# Altium integrated library TI Power Management Supervisor and Reset IC.IntLib: 819 symbols (part 7 of 30)
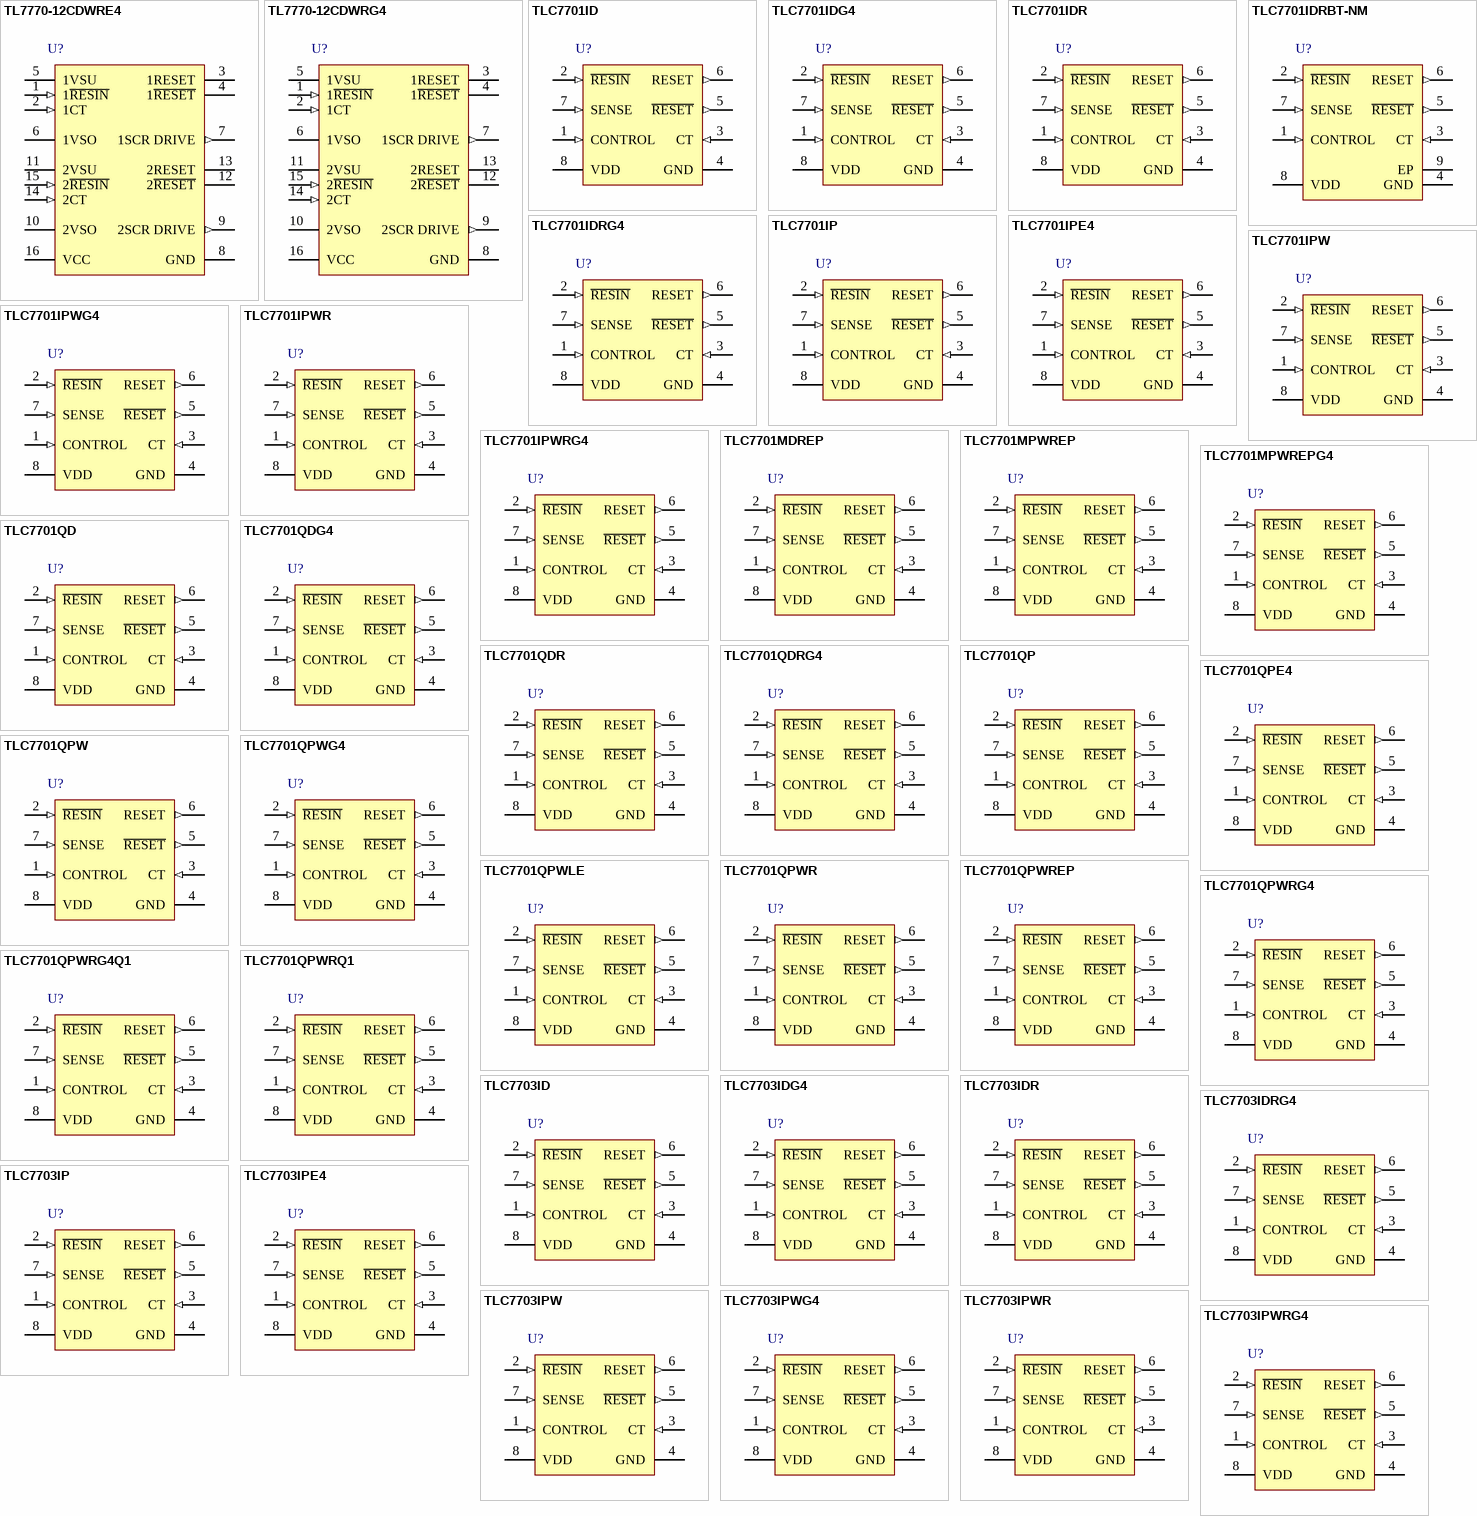
[diagram p27: symbols TL7770-12CDWRE4 to TLC7703IPWRG4]

## TLC7701IPE4
designator U?
Adjustable Single Supply Voltage Supervisor with Programmable Time Delay, 1 Supply Monitored, -40 to 85 degC, 8-pin PDIP (P), Pb-Free (RoHS); Manufacturer: Texas Instruments; PartNumber: TLC7701IPE4; # of supplies monitored: 1; Iq(Typ)(uA): 9; Output Driver Type / Reset Output: Active-low, Push-pull, Active-high, Push-pull; Rating: Catalog; Reset Threshold Accuracy(%): 5.5; SubFamily: Supervisor and Reset IC; VCC(Max)(V): 6; VCC(Min)(V): 2; DatasheetVersion: SLVS087M; PackageVersion: revE, Apr-2010; PackageReference: P8; PackageDescription: 8-Pin Plastic Dual-In-Line Package, Row Spacing 7.62 mm, Pitch 2.54 mm; Supplier 1: Digi-Key; Supplier Part Number 1: TLC7701IPE4-ND; Supplier 2: Newark; Supplier Part Number 2: 24K5356; Supplier 3: Mouser; Supplier Part Number 3: 595-TLC7701IPE4; Threshold Voltage 1 (typ)(Typ)(V): Adjustable; Time Delay(ms): Programmable; Mounting Technology: Through Hole; Code_JEDEC: MS-001-BA; ComponentLink1Description: Datasheet; ComponentLink1URL: http://www.ti.com/general/docs/lit/getliterature.tsp?genericPartNumber=TLC7701&fileType=pdf
footprint P8 (DIP, 8-Leads, Row Spacing 7.62mm, Pitch 2.54mm, Body 9.6x6.4mm)
pins: 1 CONTROL (in), 2 ~{RESIN} (in), 3 CT (in), 4 GND (power), 5 ~{RESET} (out), 6 RESET (out), 7 SENSE (in), 8 VDD (power)

## TLC7701IPW
designator U?
Adjustable Single Supply Voltage Supervisor with Programmable Time Delay, 1 Supply Monitored, -40 to 85 degC, 8-pin TSSOP (PW), Green (RoHS & no Sb/Br); Manufacturer: Texas Instruments; PartNumber: TLC7701IPW; # of supplies monitored: 1; Iq(Typ)(uA): 9; Output Driver Type / Reset Output: Active-low, Push-pull, Active-high, Push-pull; Rating: Catalog; Reset Threshold Accuracy(%): 5.5; SubFamily: Supervisor and Reset IC; VCC(Max)(V): 6; VCC(Min)(V): 2; DatasheetVersion: SLVS087M; PackageVersion: revG, Feb-2011; PackageReference: PW8; PackageDescription: 8-Pin Plastic Thin Small Outline Package 3 x 4.4 mm Body ,0.65 mm Pitch; Supplier 1: Digi-Key; Supplier Part Number 1: 296-2609-5-ND; Supplier 2: Farnell; Supplier Part Number 2: 1461368; Supplier 3: Mouser; Supplier Part Number 3: 595-TLC7701IPW; Threshold Voltage 1 (typ)(Typ)(V): Adjustable; Time Delay(ms): Programmable; Mounting Technology: Surface Mount; Code_JEDEC: MO-153; ComponentLink1Description: Datasheet; ComponentLink1URL: http://www.ti.com/general/docs/lit/getliterature.tsp?genericPartNumber=TLC7701&fileType=pdf
footprint PW8_N (TSOP, 8-Leads, Body 3x4.4mm, Pitch 0.65mm, IPC Medium Density)
footprint PW8_L (TSOP, 8-Leads, Body 3x4.4mm, Pitch 0.65mm, IPC High Density)
footprint PW8_M (TSOP, 8-Leads, Body 3x4.4mm, Pitch 0.65mm, IPC Low Density)
pins: 1 CONTROL (in), 2 ~{RESIN} (in), 3 CT (in), 4 GND (power), 5 ~{RESET} (out), 6 RESET (out), 7 SENSE (in), 8 VDD (power)

## TLC7701IPWG4
designator U?
Adjustable Single Supply Voltage Supervisor with Programmable Time Delay, 1 Supply Monitored, -40 to 85 degC, 8-pin TSSOP (PW), Green (RoHS & no Sb/Br); Manufacturer: Texas Instruments; PartNumber: TLC7701IPWG4; # of supplies monitored: 1; Iq(Typ)(uA): 9; Output Driver Type / Reset Output: Active-low, Push-pull, Active-high, Push-pull; Rating: Catalog; Reset Threshold Accuracy(%): 5.5; SubFamily: Supervisor and Reset IC; VCC(Max)(V): 6; VCC(Min)(V): 2; DatasheetVersion: SLVS087M; PackageVersion: revG, Feb-2011; PackageReference: PW8; PackageDescription: 8-Pin Plastic Thin Small Outline Package 3 x 4.4 mm Body ,0.65 mm Pitch; Supplier 1: Digi-Key; Supplier Part Number 1: TLC7701IPWG4-ND; Supplier 2: Newark; Supplier Part Number 2: 54K1039; Supplier 3: Mouser; Supplier Part Number 3: 595-TLC7701IPWG4; Threshold Voltage 1 (typ)(Typ)(V): Adjustable; Time Delay(ms): Programmable; Mounting Technology: Surface Mount; Code_JEDEC: MO-153; ComponentLink1Description: Datasheet; ComponentLink1URL: http://www.ti.com/general/docs/lit/getliterature.tsp?genericPartNumber=TLC7701&fileType=pdf
footprint PW8_N (TSOP, 8-Leads, Body 3x4.4mm, Pitch 0.65mm, IPC Medium Density)
footprint PW8_L (TSOP, 8-Leads, Body 3x4.4mm, Pitch 0.65mm, IPC High Density)
footprint PW8_M (TSOP, 8-Leads, Body 3x4.4mm, Pitch 0.65mm, IPC Low Density)
pins: 1 CONTROL (in), 2 ~{RESIN} (in), 3 CT (in), 4 GND (power), 5 ~{RESET} (out), 6 RESET (out), 7 SENSE (in), 8 VDD (power)

## TLC7701IPWR
designator U?
Adjustable Single Supply Voltage Supervisor with Programmable Time Delay, 1 Supply Monitored, -40 to 85 degC, 8-pin TSSOP (PW), Green (RoHS & no Sb/Br); Manufacturer: Texas Instruments; PartNumber: TLC7701IPWR; # of supplies monitored: 1; Iq(Typ)(uA): 9; Output Driver Type / Reset Output: Active-low, Push-pull, Active-high, Push-pull; Rating: Catalog; Reset Threshold Accuracy(%): 5.5; SubFamily: Supervisor and Reset IC; VCC(Max)(V): 6; VCC(Min)(V): 2; DatasheetVersion: SLVS087M; PackageVersion: revG, Feb-2011; PackageReference: PW8; PackageDescription: 8-Pin Plastic Thin Small Outline Package 3 x 4.4 mm Body ,0.65 mm Pitch; Supplier 1: Digi-Key; Supplier Part Number 1: 296-2609-2-ND; Supplier 2: Digi-Key; Supplier Part Number 2: 296-2609-1-ND; Supplier 3: Digi-Key; Supplier Part Number 3: 296-2609-6-ND; Supplier 4: Newark; Supplier Part Number 4: 76C7519; Supplier 5: Mouser; Supplier Part Number 5: 595-TLC7701IPWR; Threshold Voltage 1 (typ)(Typ)(V): Adjustable; Time Delay(ms): Programmable; Mounting Technology: Surface Mount; Code_JEDEC: MO-153; ComponentLink1Description: Datasheet; ComponentLink1URL: http://www.ti.com/general/docs/lit/getliterature.tsp?genericPartNumber=TLC7701&fileType=pdf
footprint PW8_N (TSOP, 8-Leads, Body 3x4.4mm, Pitch 0.65mm, IPC Medium Density)
footprint PW8_L (TSOP, 8-Leads, Body 3x4.4mm, Pitch 0.65mm, IPC High Density)
footprint PW8_M (TSOP, 8-Leads, Body 3x4.4mm, Pitch 0.65mm, IPC Low Density)
pins: 1 CONTROL (in), 2 ~{RESIN} (in), 3 CT (in), 4 GND (power), 5 ~{RESET} (out), 6 RESET (out), 7 SENSE (in), 8 VDD (power)

## TLC7701IPWRG4
designator U?
Adjustable Single Supply Voltage Supervisor with Programmable Time Delay, 1 Supply Monitored, -40 to 85 degC, 8-pin TSSOP (PW), Green (RoHS & no Sb/Br); Manufacturer: Texas Instruments; PartNumber: TLC7701IPWRG4; # of supplies monitored: 1; Iq(Typ)(uA): 9; Output Driver Type / Reset Output: Active-low, Push-pull, Active-high, Push-pull; Rating: Catalog; Reset Threshold Accuracy(%): 5.5; SubFamily: Supervisor and Reset IC; VCC(Max)(V): 6; VCC(Min)(V): 2; DatasheetVersion: SLVS087M; PackageVersion: revG, Feb-2011; PackageReference: PW8; PackageDescription: 8-Pin Plastic Thin Small Outline Package 3 x 4.4 mm Body ,0.65 mm Pitch; Supplier 1: Digi-Key; Supplier Part Number 1: TLC7701IPWRG4-ND; Supplier 2: Newark; Supplier Part Number 2: 61K1777; Supplier 3: Mouser; Supplier Part Number 3: 595-TLC7701IPWRG4; Threshold Voltage 1 (typ)(Typ)(V): Adjustable; Time Delay(ms): Programmable; Mounting Technology: Surface Mount; Code_JEDEC: MO-153; ComponentLink1Description: Datasheet; ComponentLink1URL: http://www.ti.com/general/docs/lit/getliterature.tsp?genericPartNumber=TLC7701&fileType=pdf
footprint PW8_N (TSOP, 8-Leads, Body 3x4.4mm, Pitch 0.65mm, IPC Medium Density)
footprint PW8_L (TSOP, 8-Leads, Body 3x4.4mm, Pitch 0.65mm, IPC High Density)
footprint PW8_M (TSOP, 8-Leads, Body 3x4.4mm, Pitch 0.65mm, IPC Low Density)
pins: 1 CONTROL (in), 2 ~{RESIN} (in), 3 CT (in), 4 GND (power), 5 ~{RESET} (out), 6 RESET (out), 7 SENSE (in), 8 VDD (power)

## TLC7701MDREP
designator U?
Enhanced Product Micropower Supply Voltage Supervisor, 1 Supply Monitored, -55 to 125 degC, 8-pin SOIC (D), Green (RoHS & no Sb/Br); Manufacturer: Texas Instruments; PartNumber: TLC7701MDREP; # of supplies monitored: 1; Iq(Typ)(uA): 9; Output Driver Type / Reset Output: Active-low, Push-pull, Active-high, Push-pull; Rating: HiRel Enhanced Product; Reset Threshold Accuracy(%): 5.5; SubFamily: Supervisor and Reset IC; Threshold Voltage 1 (typ)(Typ)(V): Adjustable; Time Delay(ms): Programmable; VCC(Max)(V): 6; VCC(Min)(V): 2; DatasheetVersion: SGLS013E; PackageVersion: revM, Jun-2011; PackageReference: D8; PackageDescription: 8-Pin Plastic Small Outline Integrated Circuit, 4.9 x 3.9 mm, Pitch 1.27 mm Pitch; Supplier 1: Digi-Key; Supplier Part Number 1: 296-22415-2-ND; Supplier 2: Digi-Key; Supplier Part Number 2: 296-22415-1-ND; Supplier 3: Digi-Key; Supplier Part Number 3: 296-22415-6-ND; Supplier 4: Newark; Supplier Part Number 4: 46M0938; Supplier 5: Mouser; Supplier Part Number 5: 595-TLC7701MDREP; Mounting Technology: Surface Mount; Code_JEDEC: MS-012AA; ComponentLink1Description: Datasheet; ComponentLink1URL: http://www.ti.com/general/docs/lit/getliterature.tsp?genericPartNumber=TLC7701-EP&fileType=pdf
footprint D8_N (SOIC, 8-Leads, Body 4.9x3.9mm, Pitch 1.27mm, IPC Medium Density)
footprint D8_L (SOIC, 8-Leads, Body 4.9x3.9mm, Pitch 1.27mm, IPC High Density)
footprint D8_M (SOIC, 8-Leads, Body 4.9x3.9mm, Pitch 1.27mm, IPC Low Density)
pins: 1 CONTROL (in), 2 ~{RESIN} (in), 3 CT (in), 4 GND (power), 5 ~{RESET} (out), 6 RESET (out), 7 SENSE (in), 8 VDD (power)

## TLC7701MPWREP
designator U?
Enhanced Product Micropower Supply Voltage Supervisor, 1 Supply Monitored, -55 to 125 degC, 8-pin TSSOP (PW), Green (RoHS & no Sb/Br); Manufacturer: Texas Instruments; PartNumber: TLC7701MPWREP; # of supplies monitored: 1; Iq(Typ)(uA): 9; Output Driver Type / Reset Output: Active-low, Push-pull, Active-high, Push-pull; Rating: HiRel Enhanced Product; Reset Threshold Accuracy(%): 5.5; SubFamily: Supervisor and Reset IC; Threshold Voltage 1 (typ)(Typ)(V): Adjustable; Time Delay(ms): Programmable; VCC(Max)(V): 6; VCC(Min)(V): 2; DatasheetVersion: SGLS013E; PackageVersion: revG, Feb-2011; PackageReference: PW8; PackageDescription: 8-Pin Plastic Thin Small Outline Package 3 x 4.4 mm Body ,0.65 mm Pitch; Supplier 1: Digi-Key; Supplier Part Number 1: 296-19784-2-ND; Supplier 2: Digi-Key; Supplier Part Number 2: 296-19784-1-ND; Supplier 3: Digi-Key; Supplier Part Number 3: 296-19784-6-ND; Supplier 4: Newark; Supplier Part Number 4: 46M0939; Supplier 5: Mouser; Supplier Part Number 5: 595-TLC7701MPWREP; Mounting Technology: Surface Mount; Code_JEDEC: MO-153; ComponentLink1Description: Datasheet; ComponentLink1URL: http://www.ti.com/general/docs/lit/getliterature.tsp?genericPartNumber=TLC7701-EP&fileType=pdf
footprint PW8_N (TSOP, 8-Leads, Body 3x4.4mm, Pitch 0.65mm, IPC Medium Density)
footprint PW8_L (TSOP, 8-Leads, Body 3x4.4mm, Pitch 0.65mm, IPC High Density)
footprint PW8_M (TSOP, 8-Leads, Body 3x4.4mm, Pitch 0.65mm, IPC Low Density)
pins: 1 CONTROL (in), 2 ~{RESIN} (in), 3 CT (in), 4 GND (power), 5 ~{RESET} (out), 6 RESET (out), 7 SENSE (in), 8 VDD (power)

## TLC7701MPWREPG4
designator U?
Enhanced Product Micropower Supply Voltage Supervisor, 1 Supply Monitored, -55 to 125 degC, 8-pin TSSOP (PW), Green (RoHS & no Sb/Br); Manufacturer: Texas Instruments; PartNumber: TLC7701MPWREPG4; # of supplies monitored: 1; Iq(Typ)(uA): 9; Output Driver Type / Reset Output: Active-low, Push-pull, Active-high, Push-pull; Rating: HiRel Enhanced Product; Reset Threshold Accuracy(%): 5.5; SubFamily: Supervisor and Reset IC; Threshold Voltage 1 (typ)(Typ)(V): Adjustable; Time Delay(ms): Programmable; VCC(Max)(V): 6; VCC(Min)(V): 2; DatasheetVersion: SGLS013E; PackageVersion: revG, Feb-2011; PackageReference: PW8; PackageDescription: 8-Pin Plastic Thin Small Outline Package 3 x 4.4 mm Body ,0.65 mm Pitch; Supplier 1: Digi-Key; Supplier Part Number 1: TLC7701MPWREPG4-ND; Supplier 2: Newark; Supplier Part Number 2: 12P7891; Supplier 3: Mouser; Supplier Part Number 3: 595-TLC7701MPWREPG4; Mounting Technology: Surface Mount; Code_JEDEC: MO-153; ComponentLink1Description: Datasheet; ComponentLink1URL: http://www.ti.com/general/docs/lit/getliterature.tsp?genericPartNumber=TLC7701-EP&fileType=pdf
footprint PW8_N (TSOP, 8-Leads, Body 3x4.4mm, Pitch 0.65mm, IPC Medium Density)
footprint PW8_L (TSOP, 8-Leads, Body 3x4.4mm, Pitch 0.65mm, IPC High Density)
footprint PW8_M (TSOP, 8-Leads, Body 3x4.4mm, Pitch 0.65mm, IPC Low Density)
pins: 1 CONTROL (in), 2 ~{RESIN} (in), 3 CT (in), 4 GND (power), 5 ~{RESET} (out), 6 RESET (out), 7 SENSE (in), 8 VDD (power)

## TLC7701QD
designator U?
Adjustable Single Supply Voltage Supervisor with Programmable Time Delay, 1 Supply Monitored, -40 to 125 degC, 8-pin SOIC (D), Green (RoHS & no Sb/Br); Manufacturer: Texas Instruments; PartNumber: TLC7701QD; # of supplies monitored: 1; Iq(Typ)(uA): 9; Output Driver Type / Reset Output: Active-low, Push-pull, Active-high, Push-pull; Rating: Catalog; Reset Threshold Accuracy(%): 5.5; SubFamily: Supervisor and Reset IC; VCC(Max)(V): 6; VCC(Min)(V): 2; DatasheetVersion: SLVS087M; PackageVersion: revM, Jun-2011; PackageReference: D8; PackageDescription: 8-Pin Plastic Small Outline Integrated Circuit, 4.9 x 3.9 mm, Pitch 1.27 mm Pitch; Supplier 1: Digi-Key; Supplier Part Number 1: 296-3270-5-ND; Supplier 2: Newark; Supplier Part Number 2: 76C7520; Supplier 3: Mouser; Supplier Part Number 3: 595-TLC7701QD; Threshold Voltage 1 (typ)(Typ)(V): Adjustable; Time Delay(ms): Programmable; Mounting Technology: Surface Mount; Code_JEDEC: MS-012AA; ComponentLink1Description: Datasheet; ComponentLink1URL: http://www.ti.com/general/docs/lit/getliterature.tsp?genericPartNumber=TLC7701&fileType=pdf
footprint D8_N (SOIC, 8-Leads, Body 4.9x3.9mm, Pitch 1.27mm, IPC Medium Density)
footprint D8_L (SOIC, 8-Leads, Body 4.9x3.9mm, Pitch 1.27mm, IPC High Density)
footprint D8_M (SOIC, 8-Leads, Body 4.9x3.9mm, Pitch 1.27mm, IPC Low Density)
pins: 1 CONTROL (in), 2 ~{RESIN} (in), 3 CT (in), 4 GND (power), 5 ~{RESET} (out), 6 RESET (out), 7 SENSE (in), 8 VDD (power)

## TLC7701QDG4
designator U?
Adjustable Single Supply Voltage Supervisor with Programmable Time Delay, 1 Supply Monitored, -40 to 125 degC, 8-pin SOIC (D), Green (RoHS & no Sb/Br); Manufacturer: Texas Instruments; PartNumber: TLC7701QDG4; # of supplies monitored: 1; Iq(Typ)(uA): 9; Output Driver Type / Reset Output: Active-low, Push-pull, Active-high, Push-pull; Rating: Catalog; Reset Threshold Accuracy(%): 5.5; SubFamily: Supervisor and Reset IC; VCC(Max)(V): 6; VCC(Min)(V): 2; DatasheetVersion: SLVS087M; PackageVersion: revM, Jun-2011; PackageReference: D8; PackageDescription: 8-Pin Plastic Small Outline Integrated Circuit, 4.9 x 3.9 mm, Pitch 1.27 mm Pitch; Supplier 1: Digi-Key; Supplier Part Number 1: TLC7701QDG4-ND; Supplier 2: Newark; Supplier Part Number 2: 61K1778; Supplier 3: Mouser; Supplier Part Number 3: 595-TLC7701QDG4; Threshold Voltage 1 (typ)(Typ)(V): Adjustable; Time Delay(ms): Programmable; Mounting Technology: Surface Mount; Code_JEDEC: MS-012AA; ComponentLink1Description: Datasheet; ComponentLink1URL: http://www.ti.com/general/docs/lit/getliterature.tsp?genericPartNumber=TLC7701&fileType=pdf
footprint D8_N (SOIC, 8-Leads, Body 4.9x3.9mm, Pitch 1.27mm, IPC Medium Density)
footprint D8_L (SOIC, 8-Leads, Body 4.9x3.9mm, Pitch 1.27mm, IPC High Density)
footprint D8_M (SOIC, 8-Leads, Body 4.9x3.9mm, Pitch 1.27mm, IPC Low Density)
pins: 1 CONTROL (in), 2 ~{RESIN} (in), 3 CT (in), 4 GND (power), 5 ~{RESET} (out), 6 RESET (out), 7 SENSE (in), 8 VDD (power)

## TLC7701QDR
designator U?
Adjustable Single Supply Voltage Supervisor with Programmable Time Delay, 1 Supply Monitored, -40 to 125 degC, 8-pin SOIC (D), Green (RoHS & no Sb/Br); Manufacturer: Texas Instruments; PartNumber: TLC7701QDR; # of supplies monitored: 1; Iq(Typ)(uA): 9; Output Driver Type / Reset Output: Active-low, Push-pull, Active-high, Push-pull; Rating: Catalog; Reset Threshold Accuracy(%): 5.5; SubFamily: Supervisor and Reset IC; VCC(Max)(V): 6; VCC(Min)(V): 2; DatasheetVersion: SLVS087M; PackageVersion: revM, Jun-2011; PackageReference: D8; PackageDescription: 8-Pin Plastic Small Outline Integrated Circuit, 4.9 x 3.9 mm, Pitch 1.27 mm Pitch; Supplier 1: Digi-Key; Supplier Part Number 1: TLC7701QDR-ND; Supplier 2: Newark; Supplier Part Number 2: 76C7521; Supplier 3: Mouser; Supplier Part Number 3: 595-TLC7701QDR; Threshold Voltage 1 (typ)(Typ)(V): Adjustable; Time Delay(ms): Programmable; Mounting Technology: Surface Mount; Code_JEDEC: MS-012AA; ComponentLink1Description: Datasheet; ComponentLink1URL: http://www.ti.com/general/docs/lit/getliterature.tsp?genericPartNumber=TLC7701&fileType=pdf
footprint D8_N (SOIC, 8-Leads, Body 4.9x3.9mm, Pitch 1.27mm, IPC Medium Density)
footprint D8_L (SOIC, 8-Leads, Body 4.9x3.9mm, Pitch 1.27mm, IPC High Density)
footprint D8_M (SOIC, 8-Leads, Body 4.9x3.9mm, Pitch 1.27mm, IPC Low Density)
pins: 1 CONTROL (in), 2 ~{RESIN} (in), 3 CT (in), 4 GND (power), 5 ~{RESET} (out), 6 RESET (out), 7 SENSE (in), 8 VDD (power)

## TLC7701QDRG4
designator U?
Adjustable Single Supply Voltage Supervisor with Programmable Time Delay, 1 Supply Monitored, -40 to 125 degC, 8-pin SOIC (D), Green (RoHS & no Sb/Br); Manufacturer: Texas Instruments; PartNumber: TLC7701QDRG4; # of supplies monitored: 1; Iq(Typ)(uA): 9; Output Driver Type / Reset Output: Active-low, Push-pull, Active-high, Push-pull; Rating: Catalog; Reset Threshold Accuracy(%): 5.5; SubFamily: Supervisor and Reset IC; VCC(Max)(V): 6; VCC(Min)(V): 2; DatasheetVersion: SLVS087M; PackageVersion: revM, Jun-2011; PackageReference: D8; PackageDescription: 8-Pin Plastic Small Outline Integrated Circuit, 4.9 x 3.9 mm, Pitch 1.27 mm Pitch; Supplier 1: Digi-Key; Supplier Part Number 1: TLC7701QDRG4-ND; Supplier 2: Newark; Supplier Part Number 2: 73K9550; Supplier 3: Mouser; Supplier Part Number 3: 595-TLC7701QDRG4; Threshold Voltage 1 (typ)(Typ)(V): Adjustable; Time Delay(ms): Programmable; Mounting Technology: Surface Mount; Code_JEDEC: MS-012AA; ComponentLink1Description: Datasheet; ComponentLink1URL: http://www.ti.com/general/docs/lit/getliterature.tsp?genericPartNumber=TLC7701&fileType=pdf
footprint D8_N (SOIC, 8-Leads, Body 4.9x3.9mm, Pitch 1.27mm, IPC Medium Density)
footprint D8_L (SOIC, 8-Leads, Body 4.9x3.9mm, Pitch 1.27mm, IPC High Density)
footprint D8_M (SOIC, 8-Leads, Body 4.9x3.9mm, Pitch 1.27mm, IPC Low Density)
pins: 1 CONTROL (in), 2 ~{RESIN} (in), 3 CT (in), 4 GND (power), 5 ~{RESET} (out), 6 RESET (out), 7 SENSE (in), 8 VDD (power)

## TLC7701QP
designator U?
Adjustable Single Supply Voltage Supervisor with Programmable Time Delay, 1 Supply Monitored, -40 to 125 degC, 8-pin PDIP (P), Pb-Free (RoHS); Manufacturer: Texas Instruments; PartNumber: TLC7701QP; # of supplies monitored: 1; Iq(Typ)(uA): 9; Output Driver Type / Reset Output: Active-low, Push-pull, Active-high, Push-pull; Rating: Catalog; Reset Threshold Accuracy(%): 5.5; SubFamily: Supervisor and Reset IC; VCC(Max)(V): 6; VCC(Min)(V): 2; DatasheetVersion: SLVS087M; PackageVersion: revE, Apr-2010; PackageReference: P8; PackageDescription: 8-Pin Plastic Dual-In-Line Package, Row Spacing 7.62 mm, Pitch 2.54 mm; Supplier 1: Digi-Key; Supplier Part Number 1: 296-3271-5-ND; Supplier 2: Newark; Supplier Part Number 2: 76C7522; Supplier 3: Mouser; Supplier Part Number 3: 595-TLC7701QP; Threshold Voltage 1 (typ)(Typ)(V): Adjustable; Time Delay(ms): Programmable; Mounting Technology: Through Hole; Code_JEDEC: MS-001-BA; ComponentLink1Description: Datasheet; ComponentLink1URL: http://www.ti.com/general/docs/lit/getliterature.tsp?genericPartNumber=TLC7701&fileType=pdf
footprint P8 (DIP, 8-Leads, Row Spacing 7.62mm, Pitch 2.54mm, Body 9.6x6.4mm)
pins: 1 CONTROL (in), 2 ~{RESIN} (in), 3 CT (in), 4 GND (power), 5 ~{RESET} (out), 6 RESET (out), 7 SENSE (in), 8 VDD (power)

## TLC7701QPE4
designator U?
Adjustable Single Supply Voltage Supervisor with Programmable Time Delay, 1 Supply Monitored, -40 to 125 degC, 8-pin PDIP (P), Pb-Free (RoHS); Manufacturer: Texas Instruments; PartNumber: TLC7701QPE4; # of supplies monitored: 1; Iq(Typ)(uA): 9; Output Driver Type / Reset Output: Active-low, Push-pull, Active-high, Push-pull; Rating: Catalog; Reset Threshold Accuracy(%): 5.5; SubFamily: Supervisor and Reset IC; VCC(Max)(V): 6; VCC(Min)(V): 2; DatasheetVersion: SLVS087M; PackageVersion: revE, Apr-2010; PackageReference: P8; PackageDescription: 8-Pin Plastic Dual-In-Line Package, Row Spacing 7.62 mm, Pitch 2.54 mm; Supplier 1: Digi-Key; Supplier Part Number 1: TLC7701QPE4-ND; Supplier 2: Newark; Supplier Part Number 2: 24K5357; Supplier 3: Mouser; Supplier Part Number 3: 595-TLC7701QPE4; Threshold Voltage 1 (typ)(Typ)(V): Adjustable; Time Delay(ms): Programmable; Mounting Technology: Through Hole; Code_JEDEC: MS-001-BA; ComponentLink1Description: Datasheet; ComponentLink1URL: http://www.ti.com/general/docs/lit/getliterature.tsp?genericPartNumber=TLC7701&fileType=pdf
footprint P8 (DIP, 8-Leads, Row Spacing 7.62mm, Pitch 2.54mm, Body 9.6x6.4mm)
pins: 1 CONTROL (in), 2 ~{RESIN} (in), 3 CT (in), 4 GND (power), 5 ~{RESET} (out), 6 RESET (out), 7 SENSE (in), 8 VDD (power)

## TLC7701QPW
designator U?
Adjustable Single Supply Voltage Supervisor with Programmable Time Delay, 1 Supply Monitored, -40 to 125 degC, 8-pin TSSOP (PW), Green (RoHS & no Sb/Br); Manufacturer: Texas Instruments; PartNumber: TLC7701QPW; # of supplies monitored: 1; Iq(Typ)(uA): 9; Output Driver Type / Reset Output: Active-low, Push-pull, Active-high, Push-pull; Rating: Catalog; Reset Threshold Accuracy(%): 5.5; SubFamily: Supervisor and Reset IC; VCC(Max)(V): 6; VCC(Min)(V): 2; DatasheetVersion: SLVS087M; PackageVersion: revG, Feb-2011; PackageReference: PW8; PackageDescription: 8-Pin Plastic Thin Small Outline Package 3 x 4.4 mm Body ,0.65 mm Pitch; Supplier 1: Digi-Key; Supplier Part Number 1: 296-34384-5-ND; Supplier 2: Newark; Supplier Part Number 2: 76C7523; Supplier 3: Mouser; Supplier Part Number 3: 595-TLC7701QPW; Threshold Voltage 1 (typ)(Typ)(V): Adjustable; Time Delay(ms): Programmable; Mounting Technology: Surface Mount; Code_JEDEC: MO-153; ComponentLink1Description: Datasheet; ComponentLink1URL: http://www.ti.com/general/docs/lit/getliterature.tsp?genericPartNumber=TLC7701&fileType=pdf
footprint PW8_N (TSOP, 8-Leads, Body 3x4.4mm, Pitch 0.65mm, IPC Medium Density)
footprint PW8_L (TSOP, 8-Leads, Body 3x4.4mm, Pitch 0.65mm, IPC High Density)
footprint PW8_M (TSOP, 8-Leads, Body 3x4.4mm, Pitch 0.65mm, IPC Low Density)
pins: 1 CONTROL (in), 2 ~{RESIN} (in), 3 CT (in), 4 GND (power), 5 ~{RESET} (out), 6 RESET (out), 7 SENSE (in), 8 VDD (power)

## TLC7701QPWG4
designator U?
Adjustable Single Supply Voltage Supervisor with Programmable Time Delay, 1 Supply Monitored, -40 to 125 degC, 8-pin TSSOP (PW), Green (RoHS & no Sb/Br); Manufacturer: Texas Instruments; PartNumber: TLC7701QPWG4; # of supplies monitored: 1; Iq(Typ)(uA): 9; Output Driver Type / Reset Output: Active-low, Push-pull, Active-high, Push-pull; Rating: Catalog; Reset Threshold Accuracy(%): 5.5; SubFamily: Supervisor and Reset IC; VCC(Max)(V): 6; VCC(Min)(V): 2; DatasheetVersion: SLVS087M; PackageVersion: revG, Feb-2011; PackageReference: PW8; PackageDescription: 8-Pin Plastic Thin Small Outline Package 3 x 4.4 mm Body ,0.65 mm Pitch; Supplier 1: Digi-Key; Supplier Part Number 1: TLC7701QPWG4-ND; Supplier 2: Newark; Supplier Part Number 2: 54K1040; Supplier 3: Mouser; Supplier Part Number 3: 595-TLC7701QPWG4; Threshold Voltage 1 (typ)(Typ)(V): Adjustable; Time Delay(ms): Programmable; Mounting Technology: Surface Mount; Code_JEDEC: MO-153; ComponentLink1Description: Datasheet; ComponentLink1URL: http://www.ti.com/general/docs/lit/getliterature.tsp?genericPartNumber=TLC7701&fileType=pdf
footprint PW8_N (TSOP, 8-Leads, Body 3x4.4mm, Pitch 0.65mm, IPC Medium Density)
footprint PW8_L (TSOP, 8-Leads, Body 3x4.4mm, Pitch 0.65mm, IPC High Density)
footprint PW8_M (TSOP, 8-Leads, Body 3x4.4mm, Pitch 0.65mm, IPC Low Density)
pins: 1 CONTROL (in), 2 ~{RESIN} (in), 3 CT (in), 4 GND (power), 5 ~{RESET} (out), 6 RESET (out), 7 SENSE (in), 8 VDD (power)

## TLC7701QPWLE
designator U?
Adjustable Single Supply Voltage Supervisor with Programmable Time Delay, 1 Supply Monitored, -40 to 125 degC, 8-pin TSSOP (PW); Manufacturer: Texas Instruments; PartNumber: TLC7701QPWLE; # of supplies monitored: 1; Iq(Typ)(uA): 9; Output Driver Type / Reset Output: Active-low, Push-pull, Active-high, Push-pull; Rating: Catalog; Reset Threshold Accuracy(%): 5.5; SubFamily: Supervisor and Reset IC; VCC(Max)(V): 6; VCC(Min)(V): 2; DatasheetVersion: SLVS087M; PackageVersion: revG, Feb-2011; PackageReference: PW8; PackageDescription: 8-Pin Plastic Thin Small Outline Package 3 x 4.4 mm Body ,0.65 mm Pitch; Supplier 1: Mouser; Supplier Part Number 1: N/A; Threshold Voltage 1 (typ)(Typ)(V): Adjustable; Time Delay(ms): Programmable; Mounting Technology: Surface Mount; Code_JEDEC: MO-153; ComponentLink1Description: Datasheet; ComponentLink1URL: http://www.ti.com/general/docs/lit/getliterature.tsp?genericPartNumber=TLC7701&fileType=pdf
footprint PW8_N (TSOP, 8-Leads, Body 3x4.4mm, Pitch 0.65mm, IPC Medium Density)
footprint PW8_L (TSOP, 8-Leads, Body 3x4.4mm, Pitch 0.65mm, IPC High Density)
footprint PW8_M (TSOP, 8-Leads, Body 3x4.4mm, Pitch 0.65mm, IPC Low Density)
pins: 1 CONTROL (in), 2 ~{RESIN} (in), 3 CT (in), 4 GND (power), 5 ~{RESET} (out), 6 RESET (out), 7 SENSE (in), 8 VDD (power)

## TLC7701QPWR
designator U?
Adjustable Single Supply Voltage Supervisor with Programmable Time Delay, 1 Supply Monitored, -40 to 125 degC, 8-pin TSSOP (PW), Green (RoHS & no Sb/Br); Manufacturer: Texas Instruments; PartNumber: TLC7701QPWR; # of supplies monitored: 1; Iq(Typ)(uA): 9; Output Driver Type / Reset Output: Active-low, Push-pull, Active-high, Push-pull; Rating: Catalog; Reset Threshold Accuracy(%): 5.5; SubFamily: Supervisor and Reset IC; VCC(Max)(V): 6; VCC(Min)(V): 2; DatasheetVersion: SLVS087M; PackageVersion: revG, Feb-2011; PackageReference: PW8; PackageDescription: 8-Pin Plastic Thin Small Outline Package 3 x 4.4 mm Body ,0.65 mm Pitch; Supplier 1: Digi-Key; Supplier Part Number 1: TLC7701QPWR-ND; Supplier 2: Newark; Supplier Part Number 2: 76C7524; Supplier 3: Mouser; Supplier Part Number 3: 595-TLC7701QPWR; Threshold Voltage 1 (typ)(Typ)(V): Adjustable; Time Delay(ms): Programmable; Mounting Technology: Surface Mount; Code_JEDEC: MO-153; ComponentLink1Description: Datasheet; ComponentLink1URL: http://www.ti.com/general/docs/lit/getliterature.tsp?genericPartNumber=TLC7701&fileType=pdf
footprint PW8_N (TSOP, 8-Leads, Body 3x4.4mm, Pitch 0.65mm, IPC Medium Density)
footprint PW8_L (TSOP, 8-Leads, Body 3x4.4mm, Pitch 0.65mm, IPC High Density)
footprint PW8_M (TSOP, 8-Leads, Body 3x4.4mm, Pitch 0.65mm, IPC Low Density)
pins: 1 CONTROL (in), 2 ~{RESIN} (in), 3 CT (in), 4 GND (power), 5 ~{RESET} (out), 6 RESET (out), 7 SENSE (in), 8 VDD (power)

## TLC7701QPWREP
designator U?
Enhanced Product Micropower Supply Voltage Supervisor, 1 Supply Monitored, -40 to 125 degC, 8-pin TSSOP (PW), Green (RoHS & no Sb/Br); Manufacturer: Texas Instruments; PartNumber: TLC7701QPWREP; # of supplies monitored: 1; Iq(Typ)(uA): 9; Output Driver Type / Reset Output: Active-low, Push-pull, Active-high, Push-pull; Rating: HiRel Enhanced Product; Reset Threshold Accuracy(%): 5.5; SubFamily: Supervisor and Reset IC; Threshold Voltage 1 (typ)(Typ)(V): Adjustable; Time Delay(ms): Programmable; VCC(Max)(V): 6; VCC(Min)(V): 2; DatasheetVersion: SGLS013E; PackageVersion: revG, Feb-2011; PackageReference: PW8; PackageDescription: 8-Pin Plastic Thin Small Outline Package 3 x 4.4 mm Body ,0.65 mm Pitch; Supplier 1: Digi-Key; Supplier Part Number 1: 296-22416-2-ND; Supplier 2: Digi-Key; Supplier Part Number 2: 296-22416-1-ND; Supplier 3: Digi-Key; Supplier Part Number 3: 296-22416-6-ND; Supplier 4: Newark; Supplier Part Number 4: 46M0940; Supplier 5: Mouser; Supplier Part Number 5: 595-TLC7701QPWREP; Mounting Technology: Surface Mount; Code_JEDEC: MO-153; ComponentLink1Description: Datasheet; ComponentLink1URL: http://www.ti.com/general/docs/lit/getliterature.tsp?genericPartNumber=TLC7701-EP&fileType=pdf
footprint PW8_N (TSOP, 8-Leads, Body 3x4.4mm, Pitch 0.65mm, IPC Medium Density)
footprint PW8_L (TSOP, 8-Leads, Body 3x4.4mm, Pitch 0.65mm, IPC High Density)
footprint PW8_M (TSOP, 8-Leads, Body 3x4.4mm, Pitch 0.65mm, IPC Low Density)
pins: 1 CONTROL (in), 2 ~{RESIN} (in), 3 CT (in), 4 GND (power), 5 ~{RESET} (out), 6 RESET (out), 7 SENSE (in), 8 VDD (power)

## TLC7701QPWRG4
designator U?
Adjustable Single Supply Voltage Supervisor with Programmable Time Delay, 1 Supply Monitored, -40 to 125 degC, 8-pin TSSOP (PW), Green (RoHS & no Sb/Br); Manufacturer: Texas Instruments; PartNumber: TLC7701QPWRG4; # of supplies monitored: 1; Iq(Typ)(uA): 9; Output Driver Type / Reset Output: Active-low, Push-pull, Active-high, Push-pull; Rating: Catalog; Reset Threshold Accuracy(%): 5.5; SubFamily: Supervisor and Reset IC; VCC(Max)(V): 6; VCC(Min)(V): 2; DatasheetVersion: SLVS087M; PackageVersion: revG, Feb-2011; PackageReference: PW8; PackageDescription: 8-Pin Plastic Thin Small Outline Package 3 x 4.4 mm Body ,0.65 mm Pitch; Supplier 1: Digi-Key; Supplier Part Number 1: TLC7701QPWRG4-ND; Supplier 2: Newark; Supplier Part Number 2: 54K1041; Supplier 3: Mouser; Supplier Part Number 3: 595-TLC7701QPWRG4; Threshold Voltage 1 (typ)(Typ)(V): Adjustable; Time Delay(ms): Programmable; Mounting Technology: Surface Mount; Code_JEDEC: MO-153; ComponentLink1Description: Datasheet; ComponentLink1URL: http://www.ti.com/general/docs/lit/getliterature.tsp?genericPartNumber=TLC7701&fileType=pdf
footprint PW8_N (TSOP, 8-Leads, Body 3x4.4mm, Pitch 0.65mm, IPC Medium Density)
footprint PW8_L (TSOP, 8-Leads, Body 3x4.4mm, Pitch 0.65mm, IPC High Density)
footprint PW8_M (TSOP, 8-Leads, Body 3x4.4mm, Pitch 0.65mm, IPC Low Density)
pins: 1 CONTROL (in), 2 ~{RESIN} (in), 3 CT (in), 4 GND (power), 5 ~{RESET} (out), 6 RESET (out), 7 SENSE (in), 8 VDD (power)

## TLC7701QPWRG4Q1
designator U?
Automotive Catalog Micropower Supply Voltage Supervisor, 1 Supply Monitored, -40 to 125 degC, 8-pin TSSOP (PW), Green (RoHS & no Sb/Br); Manufacturer: Texas Instruments; PartNumber: TLC7701QPWRG4Q1; # of supplies monitored: 1; Iq(Typ)(uA): 9; Output Driver Type / Reset Output: Active-low, Push-pull, Active-high, Push-pull; Reset Threshold Accuracy(%): 5.5; SubFamily: Supervisor and Reset IC; Threshold Voltage 1 (typ)(Typ)(V): Adjustable; Time Delay(ms): Programmable; VCC(Max)(V): 6; VCC(Min)(V): 2; DatasheetVersion: SGLS208A; PackageVersion: revG, Feb-2011; PackageReference: PW8; PackageDescription: 8-Pin Plastic Thin Small Outline Package 3 x 4.4 mm Body ,0.65 mm Pitch; Supplier 1: Digi-Key; Supplier Part Number 1: TLC7701QPWRG4Q1-ND; Supplier 2: Mouser; Supplier Part Number 2: 595-TLC7701QPWRG4Q1; Rating: Automotive; Mounting Technology: Surface Mount; Code_JEDEC: MO-153; ComponentLink1Description: Datasheet; ComponentLink1URL: http://www.ti.com/general/docs/lit/getliterature.tsp?genericPartNumber=TLC7701-Q1&fileType=pdf
footprint PW8_N (TSOP, 8-Leads, Body 3x4.4mm, Pitch 0.65mm, IPC Medium Density)
footprint PW8_L (TSOP, 8-Leads, Body 3x4.4mm, Pitch 0.65mm, IPC High Density)
footprint PW8_M (TSOP, 8-Leads, Body 3x4.4mm, Pitch 0.65mm, IPC Low Density)
pins: 1 CONTROL (in), 2 ~{RESIN} (in), 3 CT (in), 4 GND (power), 5 ~{RESET} (out), 6 RESET (out), 7 SENSE (in), 8 VDD (power)

## TLC7701QPWRQ1
designator U?
Automotive Catalog Micropower Supply Voltage Supervisor, 1 Supply Monitored, -40 to 125 degC, 8-pin TSSOP (PW), Green (RoHS & no Sb/Br); Manufacturer: Texas Instruments; PartNumber: TLC7701QPWRQ1; # of supplies monitored: 1; Iq(Typ)(uA): 9; Output Driver Type / Reset Output: Active-low, Push-pull, Active-high, Push-pull; Reset Threshold Accuracy(%): 5.5; SubFamily: Supervisor and Reset IC; Threshold Voltage 1 (typ)(Typ)(V): Adjustable; Time Delay(ms): Programmable; VCC(Max)(V): 6; VCC(Min)(V): 2; DatasheetVersion: SGLS208A; PackageVersion: revG, Feb-2011; PackageReference: PW8; PackageDescription: 8-Pin Plastic Thin Small Outline Package 3 x 4.4 mm Body ,0.65 mm Pitch; Supplier 1: Digi-Key; Supplier Part Number 1: TLC7701QPWRQ1-ND; Supplier 2: Mouser; Supplier Part Number 2: 595-TLC7701QPWRQ1; Rating: Automotive; Mounting Technology: Surface Mount; Code_JEDEC: MO-153; ComponentLink1Description: Datasheet; ComponentLink1URL: http://www.ti.com/general/docs/lit/getliterature.tsp?genericPartNumber=TLC7701-Q1&fileType=pdf
footprint PW8_N (TSOP, 8-Leads, Body 3x4.4mm, Pitch 0.65mm, IPC Medium Density)
footprint PW8_L (TSOP, 8-Leads, Body 3x4.4mm, Pitch 0.65mm, IPC High Density)
footprint PW8_M (TSOP, 8-Leads, Body 3x4.4mm, Pitch 0.65mm, IPC Low Density)
pins: 1 CONTROL (in), 2 ~{RESIN} (in), 3 CT (in), 4 GND (power), 5 ~{RESET} (out), 6 RESET (out), 7 SENSE (in), 8 VDD (power)

## TLC7703ID
designator U?
Single Supply Voltage Supervisor for 3.0 V Systems with Programmable Time Delay, 1 Supply Monitored, -40 to 85 degC, 8-pin SOIC (D), Green (RoHS & no Sb/Br); Manufacturer: Texas Instruments; PartNumber: TLC7703ID; # of supplies monitored: 1; Iq(Typ)(uA): 9; Output Driver Type / Reset Output: Active-low, Push-pull, Active-high, Push-pull; Rating: Catalog; Reset Threshold Accuracy(%): 2.7; SubFamily: Supervisor and Reset IC; Threshold Voltage 1 (typ)(Typ)(V): 2.63; VCC(Max)(V): 6; VCC(Min)(V): 2; DatasheetVersion: SLVS087M; PackageVersion: revM, Jun-2011; PackageReference: D8; PackageDescription: 8-Pin Plastic Small Outline Integrated Circuit, 4.9 x 3.9 mm, Pitch 1.27 mm Pitch; Supplier 1: Digi-Key; Supplier Part Number 1: 296-3272-5-ND; Supplier 2: Newark; Supplier Part Number 2: 74K3965; Supplier 3: Mouser; Supplier Part Number 3: 595-TLC7703ID; Time Delay(ms): Programmable; Mounting Technology: Surface Mount; Code_JEDEC: MS-012AA; ComponentLink1Description: Datasheet; ComponentLink1URL: http://www.ti.com/general/docs/lit/getliterature.tsp?genericPartNumber=TLC7703&fileType=pdf
footprint D8_N (SOIC, 8-Leads, Body 4.9x3.9mm, Pitch 1.27mm, IPC Medium Density)
footprint D8_L (SOIC, 8-Leads, Body 4.9x3.9mm, Pitch 1.27mm, IPC High Density)
footprint D8_M (SOIC, 8-Leads, Body 4.9x3.9mm, Pitch 1.27mm, IPC Low Density)
pins: 1 CONTROL (in), 2 ~{RESIN} (in), 3 CT (in), 4 GND (power), 5 ~{RESET} (out), 6 RESET (out), 7 SENSE (in), 8 VDD (power)

## TLC7703IDG4
designator U?
Single Supply Voltage Supervisor for 3.0 V Systems with Programmable Time Delay, 1 Supply Monitored, -40 to 85 degC, 8-pin SOIC (D), Green (RoHS & no Sb/Br); Manufacturer: Texas Instruments; PartNumber: TLC7703IDG4; # of supplies monitored: 1; Iq(Typ)(uA): 9; Output Driver Type / Reset Output: Active-low, Push-pull, Active-high, Push-pull; Rating: Catalog; Reset Threshold Accuracy(%): 2.7; SubFamily: Supervisor and Reset IC; Threshold Voltage 1 (typ)(Typ)(V): 2.63; VCC(Max)(V): 6; VCC(Min)(V): 2; DatasheetVersion: SLVS087M; PackageVersion: revM, Jun-2011; PackageReference: D8; PackageDescription: 8-Pin Plastic Small Outline Integrated Circuit, 4.9 x 3.9 mm, Pitch 1.27 mm Pitch; Supplier 1: Digi-Key; Supplier Part Number 1: TLC7703IDG4-ND; Supplier 2: Newark; Supplier Part Number 2: 58K6750; Supplier 3: Mouser; Supplier Part Number 3: 595-TLC7703IDG4; Time Delay(ms): Programmable; Mounting Technology: Surface Mount; Code_JEDEC: MS-012AA; ComponentLink1Description: Datasheet; ComponentLink1URL: http://www.ti.com/general/docs/lit/getliterature.tsp?genericPartNumber=TLC7703&fileType=pdf
footprint D8_N (SOIC, 8-Leads, Body 4.9x3.9mm, Pitch 1.27mm, IPC Medium Density)
footprint D8_L (SOIC, 8-Leads, Body 4.9x3.9mm, Pitch 1.27mm, IPC High Density)
footprint D8_M (SOIC, 8-Leads, Body 4.9x3.9mm, Pitch 1.27mm, IPC Low Density)
pins: 1 CONTROL (in), 2 ~{RESIN} (in), 3 CT (in), 4 GND (power), 5 ~{RESET} (out), 6 RESET (out), 7 SENSE (in), 8 VDD (power)

## TLC7703IDR
designator U?
Single Supply Voltage Supervisor for 3.0 V Systems with Programmable Time Delay, 1 Supply Monitored, -40 to 85 degC, 8-pin SOIC (D), Green (RoHS & no Sb/Br); Manufacturer: Texas Instruments; PartNumber: TLC7703IDR; # of supplies monitored: 1; Iq(Typ)(uA): 9; Output Driver Type / Reset Output: Active-low, Push-pull, Active-high, Push-pull; Rating: Catalog; Reset Threshold Accuracy(%): 2.7; SubFamily: Supervisor and Reset IC; Threshold Voltage 1 (typ)(Typ)(V): 2.63; VCC(Max)(V): 6; VCC(Min)(V): 2; DatasheetVersion: SLVS087M; PackageVersion: revM, Jun-2011; PackageReference: D8; PackageDescription: 8-Pin Plastic Small Outline Integrated Circuit, 4.9 x 3.9 mm, Pitch 1.27 mm Pitch; Supplier 1: Digi-Key; Supplier Part Number 1: TLC7703IDR-ND; Supplier 2: Newark; Supplier Part Number 2: 76C7525; Supplier 3: Mouser; Supplier Part Number 3: 595-TLC7703IDR; Time Delay(ms): Programmable; Mounting Technology: Surface Mount; Code_JEDEC: MS-012AA; ComponentLink1Description: Datasheet; ComponentLink1URL: http://www.ti.com/general/docs/lit/getliterature.tsp?genericPartNumber=TLC7703&fileType=pdf
footprint D8_N (SOIC, 8-Leads, Body 4.9x3.9mm, Pitch 1.27mm, IPC Medium Density)
footprint D8_L (SOIC, 8-Leads, Body 4.9x3.9mm, Pitch 1.27mm, IPC High Density)
footprint D8_M (SOIC, 8-Leads, Body 4.9x3.9mm, Pitch 1.27mm, IPC Low Density)
pins: 1 CONTROL (in), 2 ~{RESIN} (in), 3 CT (in), 4 GND (power), 5 ~{RESET} (out), 6 RESET (out), 7 SENSE (in), 8 VDD (power)

## TLC7703IDRG4
designator U?
Single Supply Voltage Supervisor for 3.0 V Systems with Programmable Time Delay, 1 Supply Monitored, -40 to 85 degC, 8-pin SOIC (D), Green (RoHS & no Sb/Br); Manufacturer: Texas Instruments; PartNumber: TLC7703IDRG4; # of supplies monitored: 1; Iq(Typ)(uA): 9; Output Driver Type / Reset Output: Active-low, Push-pull, Active-high, Push-pull; Rating: Catalog; Reset Threshold Accuracy(%): 2.7; SubFamily: Supervisor and Reset IC; Threshold Voltage 1 (typ)(Typ)(V): 2.63; VCC(Max)(V): 6; VCC(Min)(V): 2; DatasheetVersion: SLVS087M; PackageVersion: revM, Jun-2011; PackageReference: D8; PackageDescription: 8-Pin Plastic Small Outline Integrated Circuit, 4.9 x 3.9 mm, Pitch 1.27 mm Pitch; Supplier 1: Digi-Key; Supplier Part Number 1: TLC7703IDRG4-ND; Supplier 2: Newark; Supplier Part Number 2: 54K1042; Supplier 3: Mouser; Supplier Part Number 3: 595-TLC7703IDRG4; Time Delay(ms): Programmable; Mounting Technology: Surface Mount; Code_JEDEC: MS-012AA; ComponentLink1Description: Datasheet; ComponentLink1URL: http://www.ti.com/general/docs/lit/getliterature.tsp?genericPartNumber=TLC7703&fileType=pdf
footprint D8_N (SOIC, 8-Leads, Body 4.9x3.9mm, Pitch 1.27mm, IPC Medium Density)
footprint D8_L (SOIC, 8-Leads, Body 4.9x3.9mm, Pitch 1.27mm, IPC High Density)
footprint D8_M (SOIC, 8-Leads, Body 4.9x3.9mm, Pitch 1.27mm, IPC Low Density)
pins: 1 CONTROL (in), 2 ~{RESIN} (in), 3 CT (in), 4 GND (power), 5 ~{RESET} (out), 6 RESET (out), 7 SENSE (in), 8 VDD (power)

## TLC7703IP
designator U?
Single Supply Voltage Supervisor for 3.0 V Systems with Programmable Time Delay, 1 Supply Monitored, -40 to 85 degC, 8-pin PDIP (P), Pb-Free (RoHS); Manufacturer: Texas Instruments; PartNumber: TLC7703IP; # of supplies monitored: 1; Iq(Typ)(uA): 9; Output Driver Type / Reset Output: Active-low, Push-pull, Active-high, Push-pull; Rating: Catalog; Reset Threshold Accuracy(%): 2.7; SubFamily: Supervisor and Reset IC; Threshold Voltage 1 (typ)(Typ)(V): 2.63; VCC(Max)(V): 6; VCC(Min)(V): 2; DatasheetVersion: SLVS087M; PackageVersion: revE, Apr-2010; PackageReference: P8; PackageDescription: 8-Pin Plastic Dual-In-Line Package, Row Spacing 7.62 mm, Pitch 2.54 mm; Supplier 1: Digi-Key; Supplier Part Number 1: 296-3273-5-ND; Supplier 2: Newark; Supplier Part Number 2: 76C7526; Supplier 3: Mouser; Supplier Part Number 3: 595-TLC7703IP; Time Delay(ms): Programmable; Mounting Technology: Through Hole; Code_JEDEC: MS-001-BA; ComponentLink1Description: Datasheet; ComponentLink1URL: http://www.ti.com/general/docs/lit/getliterature.tsp?genericPartNumber=TLC7703&fileType=pdf
footprint P8 (DIP, 8-Leads, Row Spacing 7.62mm, Pitch 2.54mm, Body 9.6x6.4mm)
pins: 1 CONTROL (in), 2 ~{RESIN} (in), 3 CT (in), 4 GND (power), 5 ~{RESET} (out), 6 RESET (out), 7 SENSE (in), 8 VDD (power)

## TLC7703IPE4
designator U?
Single Supply Voltage Supervisor for 3.0 V Systems with Programmable Time Delay, 1 Supply Monitored, -40 to 85 degC, 8-pin PDIP (P), Pb-Free (RoHS); Manufacturer: Texas Instruments; PartNumber: TLC7703IPE4; # of supplies monitored: 1; Iq(Typ)(uA): 9; Output Driver Type / Reset Output: Active-low, Push-pull, Active-high, Push-pull; Rating: Catalog; Reset Threshold Accuracy(%): 2.7; SubFamily: Supervisor and Reset IC; Threshold Voltage 1 (typ)(Typ)(V): 2.63; VCC(Max)(V): 6; VCC(Min)(V): 2; DatasheetVersion: SLVS087M; PackageVersion: revE, Apr-2010; PackageReference: P8; PackageDescription: 8-Pin Plastic Dual-In-Line Package, Row Spacing 7.62 mm, Pitch 2.54 mm; Supplier 1: Digi-Key; Supplier Part Number 1: TLC7703IPE4-ND; Supplier 2: Newark; Supplier Part Number 2: 24K5358; Supplier 3: Mouser; Supplier Part Number 3: 595-TLC7703IPE4; Time Delay(ms): Programmable; Mounting Technology: Through Hole; Code_JEDEC: MS-001-BA; ComponentLink1Description: Datasheet; ComponentLink1URL: http://www.ti.com/general/docs/lit/getliterature.tsp?genericPartNumber=TLC7703&fileType=pdf
footprint P8 (DIP, 8-Leads, Row Spacing 7.62mm, Pitch 2.54mm, Body 9.6x6.4mm)
pins: 1 CONTROL (in), 2 ~{RESIN} (in), 3 CT (in), 4 GND (power), 5 ~{RESET} (out), 6 RESET (out), 7 SENSE (in), 8 VDD (power)

## TLC7703IPW
designator U?
Single Supply Voltage Supervisor for 3.0 V Systems with Programmable Time Delay, 1 Supply Monitored, 8-pin TSSOP (PW), Green (RoHS & no Sb/Br); Manufacturer: Texas Instruments; PartNumber: TLC7703IPW; # of supplies monitored: 1; Iq(Typ)(uA): 9; Output Driver Type / Reset Output: Active-low, Push-pull, Active-high, Push-pull; Rating: Catalog; Reset Threshold Accuracy(%): 2.7; SubFamily: Supervisor and Reset IC; Threshold Voltage 1 (typ)(Typ)(V): 2.63; VCC(Max)(V): 6; VCC(Min)(V): 2; DatasheetVersion: SLVS087M; PackageVersion: revG, Feb-2011; PackageReference: PW8; PackageDescription: 8-Pin Plastic Thin Small Outline Package 3 x 4.4 mm Body ,0.65 mm Pitch; Supplier 1: Digi-Key; Supplier Part Number 1: 296-34385-5-ND; Supplier 2: Newark; Supplier Part Number 2: 76C7527; Supplier 3: Mouser; Supplier Part Number 3: 595-TLC7703IPW; Time Delay(ms): Programmable; Mounting Technology: Surface Mount; Code_JEDEC: MO-153; ComponentLink1Description: Datasheet; ComponentLink1URL: http://www.ti.com/general/docs/lit/getliterature.tsp?genericPartNumber=TLC7703&fileType=pdf
footprint PW8_N (TSOP, 8-Leads, Body 3x4.4mm, Pitch 0.65mm, IPC Medium Density)
footprint PW8_L (TSOP, 8-Leads, Body 3x4.4mm, Pitch 0.65mm, IPC High Density)
footprint PW8_M (TSOP, 8-Leads, Body 3x4.4mm, Pitch 0.65mm, IPC Low Density)
pins: 1 CONTROL (in), 2 ~{RESIN} (in), 3 CT (in), 4 GND (power), 5 ~{RESET} (out), 6 RESET (out), 7 SENSE (in), 8 VDD (power)

## TLC7703IPWG4
designator U?
Single Supply Voltage Supervisor for 3.0 V Systems with Programmable Time Delay, 1 Supply Monitored, 8-pin TSSOP (PW), Green (RoHS & no Sb/Br); Manufacturer: Texas Instruments; PartNumber: TLC7703IPWG4; # of supplies monitored: 1; Iq(Typ)(uA): 9; Output Driver Type / Reset Output: Active-low, Push-pull, Active-high, Push-pull; Rating: Catalog; Reset Threshold Accuracy(%): 2.7; SubFamily: Supervisor and Reset IC; Threshold Voltage 1 (typ)(Typ)(V): 2.63; VCC(Max)(V): 6; VCC(Min)(V): 2; DatasheetVersion: SLVS087M; PackageVersion: revG, Feb-2011; PackageReference: PW8; PackageDescription: 8-Pin Plastic Thin Small Outline Package 3 x 4.4 mm Body ,0.65 mm Pitch; Supplier 1: Digi-Key; Supplier Part Number 1: TLC7703IPWG4-ND; Supplier 2: Newark; Supplier Part Number 2: 54K1043; Supplier 3: Mouser; Supplier Part Number 3: 595-TLC7703IPWG4; Time Delay(ms): Programmable; Mounting Technology: Surface Mount; Code_JEDEC: MO-153; ComponentLink1Description: Datasheet; ComponentLink1URL: http://www.ti.com/general/docs/lit/getliterature.tsp?genericPartNumber=TLC7703&fileType=pdf
footprint PW8_N (TSOP, 8-Leads, Body 3x4.4mm, Pitch 0.65mm, IPC Medium Density)
footprint PW8_L (TSOP, 8-Leads, Body 3x4.4mm, Pitch 0.65mm, IPC High Density)
footprint PW8_M (TSOP, 8-Leads, Body 3x4.4mm, Pitch 0.65mm, IPC Low Density)
pins: 1 CONTROL (in), 2 ~{RESIN} (in), 3 CT (in), 4 GND (power), 5 ~{RESET} (out), 6 RESET (out), 7 SENSE (in), 8 VDD (power)

## TLC7703IPWR
designator U?
Single Supply Voltage Supervisor for 3.0 V Systems with Programmable Time Delay, 1 Supply Monitored, -40 to 85 degC, 8-pin TSSOP (PW), Green (RoHS & no Sb/Br); Manufacturer: Texas Instruments; PartNumber: TLC7703IPWR; # of supplies monitored: 1; Iq(Typ)(uA): 9; Output Driver Type / Reset Output: Active-low, Push-pull, Active-high, Push-pull; Rating: Catalog; Reset Threshold Accuracy(%): 2.7; SubFamily: Supervisor and Reset IC; Threshold Voltage 1 (typ)(Typ)(V): 2.63; VCC(Max)(V): 6; VCC(Min)(V): 2; DatasheetVersion: SLVS087M; PackageVersion: revG, Feb-2011; PackageReference: PW8; PackageDescription: 8-Pin Plastic Thin Small Outline Package 3 x 4.4 mm Body ,0.65 mm Pitch; Supplier 1: Digi-Key; Supplier Part Number 1: 296-3274-2-ND; Supplier 2: Digi-Key; Supplier Part Number 2: 296-3274-1-ND; Supplier 3: Digi-Key; Supplier Part Number 3: 296-3274-6-ND; Supplier 4: Newark; Supplier Part Number 4: 76C7528; Supplier 5: Mouser; Supplier Part Number 5: 595-TLC7703IPWR; Time Delay(ms): Programmable; Mounting Technology: Surface Mount; Code_JEDEC: MO-153; ComponentLink1Description: Datasheet; ComponentLink1URL: http://www.ti.com/general/docs/lit/getliterature.tsp?genericPartNumber=TLC7703&fileType=pdf
footprint PW8_N (TSOP, 8-Leads, Body 3x4.4mm, Pitch 0.65mm, IPC Medium Density)
footprint PW8_L (TSOP, 8-Leads, Body 3x4.4mm, Pitch 0.65mm, IPC High Density)
footprint PW8_M (TSOP, 8-Leads, Body 3x4.4mm, Pitch 0.65mm, IPC Low Density)
pins: 1 CONTROL (in), 2 ~{RESIN} (in), 3 CT (in), 4 GND (power), 5 ~{RESET} (out), 6 RESET (out), 7 SENSE (in), 8 VDD (power)

## TLC7703IPWRG4
designator U?
Single Supply Voltage Supervisor for 3.0 V Systems with Programmable Time Delay, 1 Supply Monitored, -40 to 85 degC, 8-pin TSSOP (PW), Green (RoHS & no Sb/Br); Manufacturer: Texas Instruments; PartNumber: TLC7703IPWRG4; # of supplies monitored: 1; Iq(Typ)(uA): 9; Output Driver Type / Reset Output: Active-low, Push-pull, Active-high, Push-pull; Rating: Catalog; Reset Threshold Accuracy(%): 2.7; SubFamily: Supervisor and Reset IC; Threshold Voltage 1 (typ)(Typ)(V): 2.63; VCC(Max)(V): 6; VCC(Min)(V): 2; DatasheetVersion: SLVS087M; PackageVersion: revG, Feb-2011; PackageReference: PW8; PackageDescription: 8-Pin Plastic Thin Small Outline Package 3 x 4.4 mm Body ,0.65 mm Pitch; Supplier 1: Digi-Key; Supplier Part Number 1: TLC7703IPWRG4-ND; Supplier 2: Newark; Supplier Part Number 2: 54K1044; Supplier 3: Mouser; Supplier Part Number 3: 595-TLC7703IPWRG4; Time Delay(ms): Programmable; Mounting Technology: Surface Mount; Code_JEDEC: MO-153; ComponentLink1Description: Datasheet; ComponentLink1URL: http://www.ti.com/general/docs/lit/getliterature.tsp?genericPartNumber=TLC7703&fileType=pdf
footprint PW8_N (TSOP, 8-Leads, Body 3x4.4mm, Pitch 0.65mm, IPC Medium Density)
footprint PW8_L (TSOP, 8-Leads, Body 3x4.4mm, Pitch 0.65mm, IPC High Density)
footprint PW8_M (TSOP, 8-Leads, Body 3x4.4mm, Pitch 0.65mm, IPC Low Density)
pins: 1 CONTROL (in), 2 ~{RESIN} (in), 3 CT (in), 4 GND (power), 5 ~{RESET} (out), 6 RESET (out), 7 SENSE (in), 8 VDD (power)

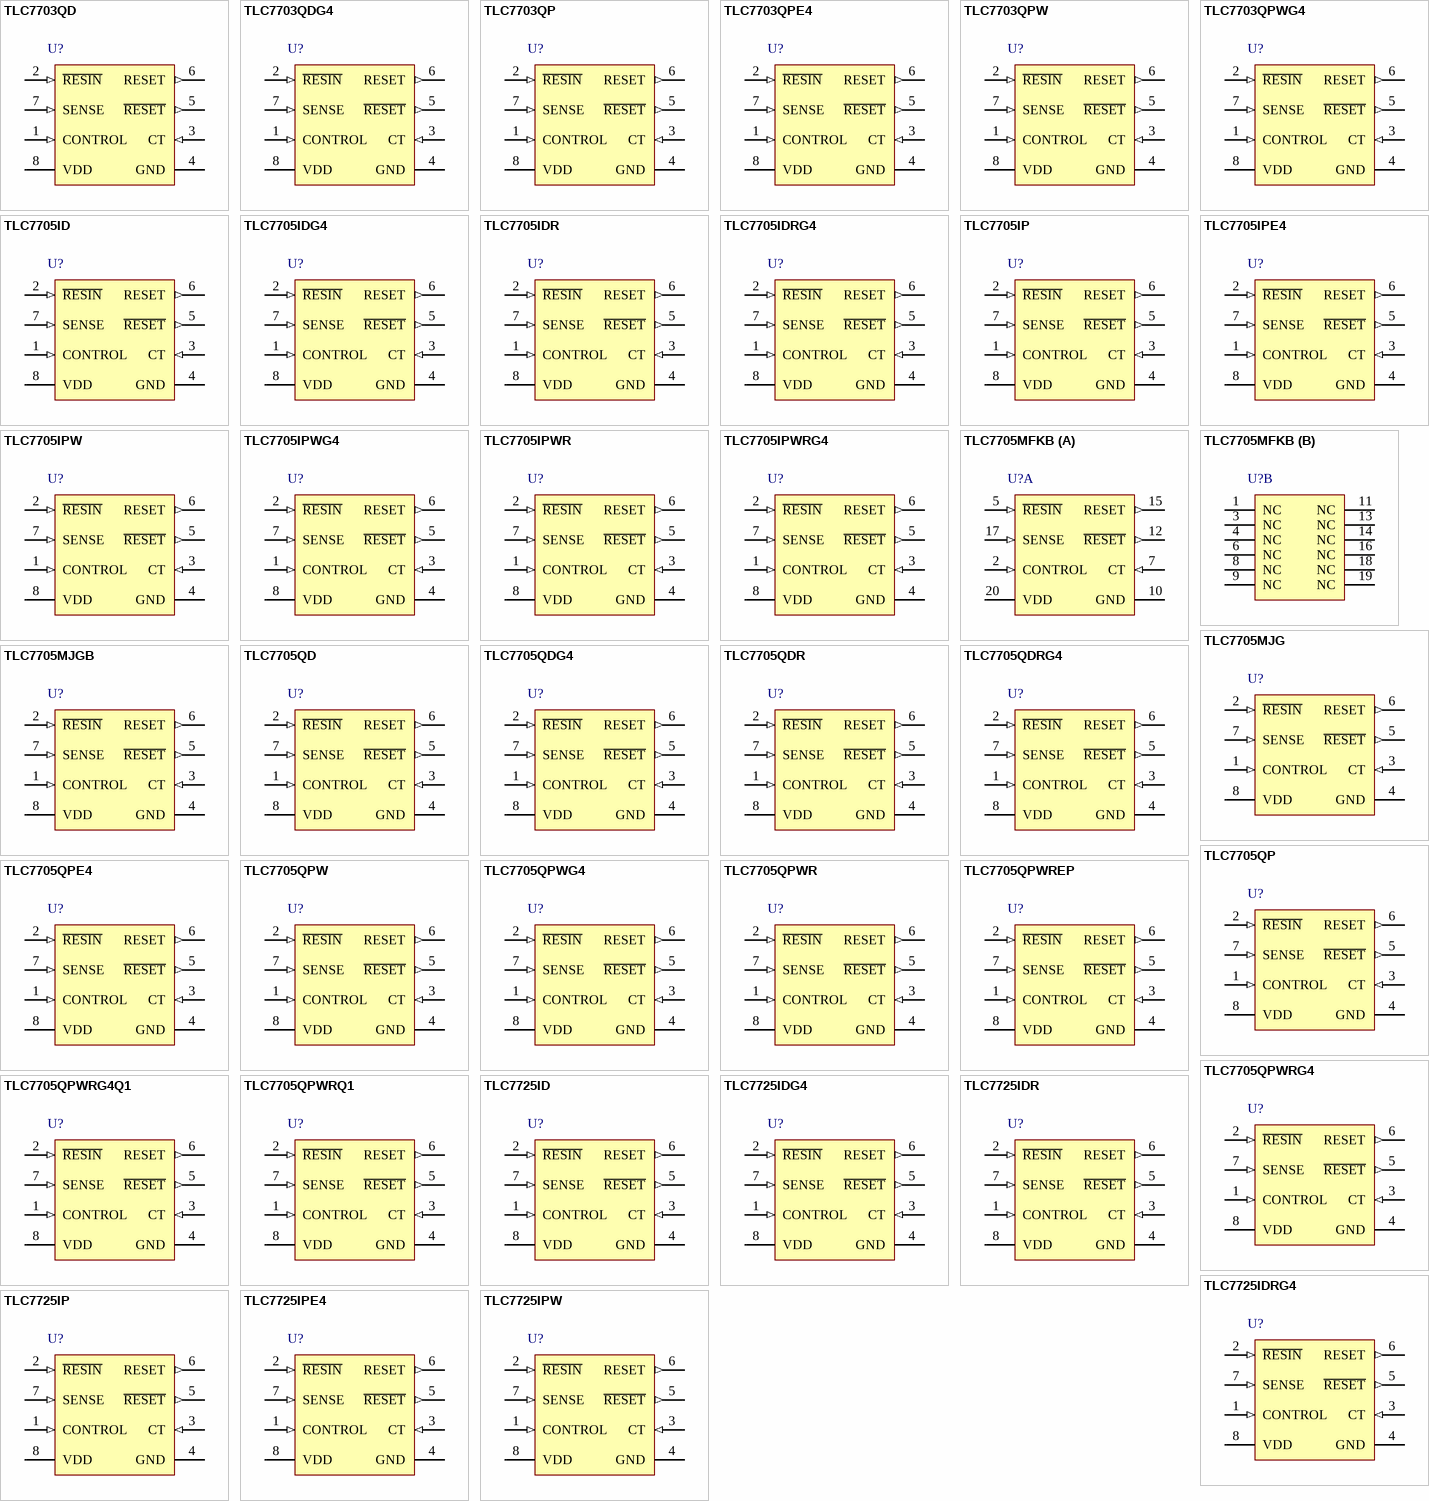
[diagram p6: symbols TLC7703QD to TLC7725IPW]

## TLC7703QD
designator U?
Single Supply Voltage Supervisor for 3.0 V Systems with Programmable Time Delay, 1 Supply Monitored, -40 to 125 degC, 8-pin SOIC (D), Green (RoHS & no Sb/Br); Manufacturer: Texas Instruments; PartNumber: TLC7703QD; # of supplies monitored: 1; Iq(Typ)(uA): 9; Output Driver Type / Reset Output: Active-low, Push-pull, Active-high, Push-pull; Rating: Catalog; Reset Threshold Accuracy(%): 2.7; SubFamily: Supervisor and Reset IC; Threshold Voltage 1 (typ)(Typ)(V): 2.63; VCC(Max)(V): 6; VCC(Min)(V): 2; DatasheetVersion: SLVS087M; PackageVersion: revM, Jun-2011; PackageReference: D8; PackageDescription: 8-Pin Plastic Small Outline Integrated Circuit, 4.9 x 3.9 mm, Pitch 1.27 mm Pitch; Supplier 1: Digi-Key; Supplier Part Number 1: 296-2610-5-ND; Supplier 2: Newark; Supplier Part Number 2: 76C7529; Supplier 3: Mouser; Supplier Part Number 3: 595-TLC7703QD; Time Delay(ms): Programmable; Mounting Technology: Surface Mount; Code_JEDEC: MS-012AA; ComponentLink1Description: Datasheet; ComponentLink1URL: http://www.ti.com/general/docs/lit/getliterature.tsp?genericPartNumber=TLC7703&fileType=pdf
footprint D8_N (SOIC, 8-Leads, Body 4.9x3.9mm, Pitch 1.27mm, IPC Medium Density)
footprint D8_L (SOIC, 8-Leads, Body 4.9x3.9mm, Pitch 1.27mm, IPC High Density)
footprint D8_M (SOIC, 8-Leads, Body 4.9x3.9mm, Pitch 1.27mm, IPC Low Density)
pins: 1 CONTROL (in), 2 ~{RESIN} (in), 3 CT (in), 4 GND (power), 5 ~{RESET} (out), 6 RESET (out), 7 SENSE (in), 8 VDD (power)